# Altium footprint library Intral.PcbLib: 6 footprints
Each footprint in its own frame and in the unit in brackets; x right, y up, seen from the top. Pads: shape width x height; smd on the part's side, far side on the other; paste and mask are expansions set on the pad; w line width, h text height; cw(c..) or ccw(c..) is an arc to the next point about the centre after c.
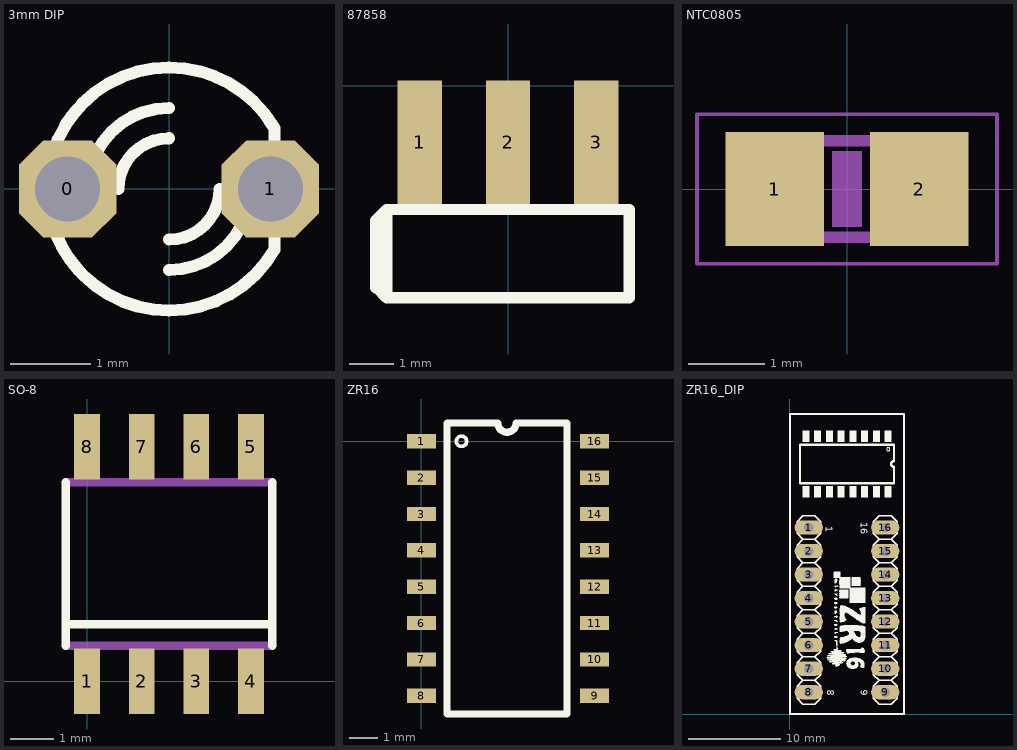
[diagram p0: the footprints below, top view; thin cyan lines are the x and y axes]

## 3mm DIP [mil]
pads (2):
  oct 48x48 hole 32: 0(-50,0) 1(50,0)
Top Overlay:
  lines w6: -48,36 cw(c0,0) 0,60 cw(c-0.01,0) 51.44,30.87 ; -47.36,-36.83 ccw(c0.01,0) 0,-60 ccw(c-0.01,0) 52.09,-29.77 ; -46.09,38.41 ccw(c0,-0.01) -60,0 ccw(c0,-0.01) -44.85,-39.86 ; -40,0 cw(c0,0) 0,40 ; -25,0 cw(c0,0) 0,25 ; 0,-40 ccw(c0,0) 40,0 ; 0,-25 ccw(c0,0) 25,0 ; 52,-30 52,30
3D body: height 195.87, standoff -98.43, extent -65.51,-65.06 61,64.74

## 87858 [mm]
pads (3):
  rect 1x2.8 smd: 1(-2,-1.27) 2(0,-1.27) 3(2,-1.27)
Top Overlay:
  lines w0.254: -2.75,-2.925 -2.75,-2.8 ; -2.75,-4.8 2.75,-4.8 2.75,-2.8 0,-2.8 -2.75,-2.8 ; -2.75,-4.8 -2.75,-2.8 ; -2.75,-4.8 -2.978,-4.572 -3,-4.572 -3,-3.175 -3,-3.05 -2.75,-2.8
3D body: height 1.99, standoff -0.01, extent -3,-8.994 2.75,-0.024

## NTC0805 [mil]
pads (2):
  rect 51.18x59.06 smd: 1(-37.4,0) 2(37.4,0)
Mechanical 6:
  rectangle: -7.87,-19.69 7.87,19.69
Mechanical 16:
  rectangle: 16,-27.5 41.59,27.62
  rectangle: -42,-27.5 -16.41,27.62
  lines w6: -16.14,-25 16.14,-25 ; -16.14,25 16.14,25
Mechanical 27:
  lines w2: -77.68,-38.7 77.68,-38.7 77.68,38.7 -77.68,38.7 -77.68,-38.7
3D body: height 29.92, standoff 0, extent -45.27,-26.57 45.28,26.58

## SO-8 [mil]
pads (8):
  rect 23.62x59.84 smd: 1(0,0) 2(50,0) 3(100,0) 4(150,0) 5(150,214.56) 6(100,214.56) 7(50,214.56) 8(0,214.56)
Top Overlay:
  lines w8: -19.49,32.48 -19.49,52.16 ; -19.49,182.08 -19.49,52.16 ; 169.49,32.48 169.49,52.16 ; 169.49,182.08 169.49,52.16 ; -19.49,52.16 169.49,52.16
Mechanical 16:
  rectangle: -9.65,-14.77 9.65,28.54
  rectangle: 40.35,-14.77 59.65,28.54
  rectangle: 90.35,-14.77 109.65,28.54
  rectangle: 140.35,-14.77 159.65,28.54
  rectangle: 140.35,186.02 159.65,229.33
  rectangle: 90.35,186.02 109.65,229.33
  rectangle: 40.35,186.02 59.65,229.33
  rectangle: -9.65,186.02 9.65,229.33
  lines w8: -19.49,32.48 169.49,32.48 ; -19.49,182.08 169.49,182.08

## ZR16 [mm]
pads (16):
  rect 1x0.5 smd: 1(0,0) 2(0,-1.27) 3(0,-2.54) 4(0,-3.81) 5(0,-5.08) 6(0,-6.35) 7(0,-7.62) 8(0,-8.89) 9(6.043,-8.89) 10(6.043,-7.62) 11(6.043,-6.35) 12(6.043,-5.08) 13(6.043,-3.81) 14(6.043,-2.54) 15(6.043,-1.27) 16(6.043,0)
Top Overlay:
  circle w0.127: c1.397,0 r0.18
  lines w0.254: 0.889,-9.525 0.889,0.635 2.667,0.635 ccw(c2.984,0.635) 3.302,0.635 5.08,0.635 5.08,-9.525 0.889,-9.525
3D body: height 1.4, standoff 0, extent 0.048,-9.395 6.048,0.505

## ZR16_DIP [mil]
pads (16):
  oval 120x60 hole 40: 1(80,792.5) 2(80,692.5) 3(80,592.5) 4(80,492.5) 5(80,392.5) 6(80,292.5) 7(80,192.5) 8(80,92.5) 9(405,92.5) 10(405,192.5) 11(405,292.5) 12(405,392.5) 13(405,492.5) 14(405,592.5) 15(405,692.5) 16(405,792.5)
Top Overlay:
  drawing of 3070 lines, arcs and shapes, not listed
  text "1" at 152.5,797.5 h30
  text "8" at 157.5,102.5 h30
  text "9" at 300,102.5 h30
  text "16" at 300,815 h30
Mechanical 16:
  region: 70,102.5 70,82.5 90,82.5 90,102.5
  region: 70,802.5 70,782.5 90,782.5 90,802.5
  region: 70,702.5 70,682.5 90,682.5 90,702.5
  region: 70,602.5 70,582.5 90,582.5 90,602.5
  region: 70,502.5 70,482.5 90,482.5 90,502.5
  region: 70,402.5 70,382.5 90,382.5 90,402.5
  region: 70,302.5 70,282.5 90,282.5 90,302.5
  region: 70,202.5 70,182.5 90,182.5 90,202.5
  region: 395,102.5 395,82.5 415,82.5 415,102.5
  region: 395,802.5 395,782.5 415,782.5 415,802.5
  region: 395,702.5 395,682.5 415,682.5 415,702.5
  region: 395,602.5 395,582.5 415,582.5 415,602.5
  region: 395,502.5 395,482.5 415,482.5 415,502.5
  region: 395,402.5 395,382.5 415,382.5 415,402.5
  region: 395,302.5 395,282.5 415,282.5 415,302.5
  region: 395,202.5 395,182.5 415,182.5 415,202.5
3D body: height 209.11, standoff -245.22, extent 0,0.85 484.26,1272.5